# Altium footprint library 744242471.PcbLib: 1 footprints
Each footprint in its own frame and in the unit in brackets; x right, y up, seen from the top. Pads: shape width x height; smd on the part's side, far side on the other; paste and mask are expansions set on the pad; w line width, h text height; cw(c..) or ccw(c..) is an arc to the next point about the centre after c.
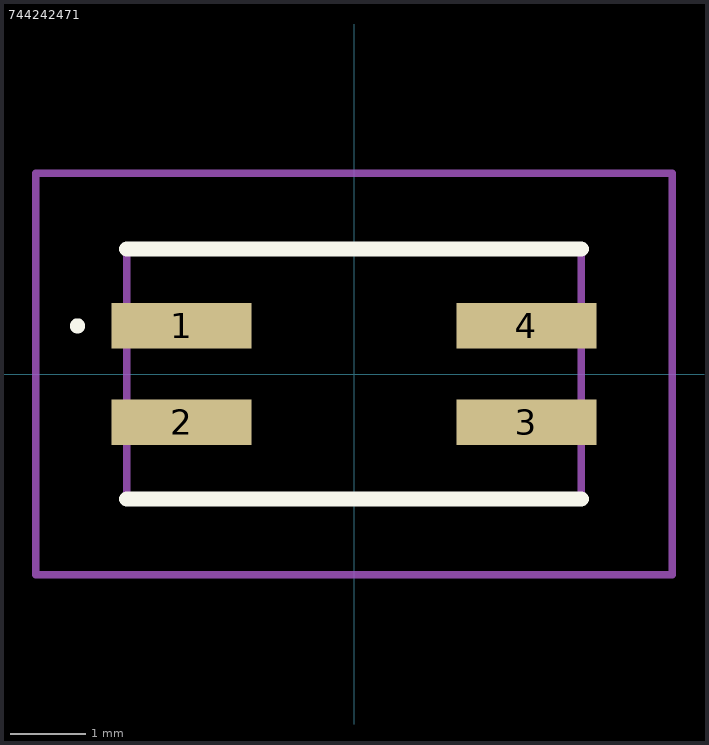
[diagram p0: the footprint, top view; thin cyan lines are the x and y axes]

## 744242471 [mm]
pads (4):
  rect 1.85x0.6 smd: 1(-2.275,0.635) 2(-2.275,-0.635) 3(2.275,-0.635) 4(2.275,0.635)
Top Overlay:
  lines w0.1: -3.7,0.635 -3.7,0.635 ; -3.7,0.635 ccw(c-3.65,0.635) -3.6,0.635 ; -3.7,0.635 cw(c-3.65,0.635) -3.6,0.635 ; -3.6,0.635 -3.6,0.635
  lines w0.2: -3,-1.65 3,-1.65 ; -3,1.65 3,1.65
Mechanical 15:
  lines w0.1: -3,-1.65 3,-1.65 3,1.65 -3,1.65 -3,-1.65
Mechanical 20:
  lines w0.1: -4.2,-2.65 4.2,-2.65 4.2,2.65 -4.2,2.65 -4.2,-2.65